# Altium footprint library FH12A40S05SH55.PcbLib: 1 footprints
Each footprint in its own frame and in the unit in brackets; x right, y up, seen from the top. Pads: shape width x height; smd on the part's side, far side on the other; paste and mask are expansions set on the pad; w line width, h text height; cw(c..) or ccw(c..) is an arc to the next point about the centre after c.
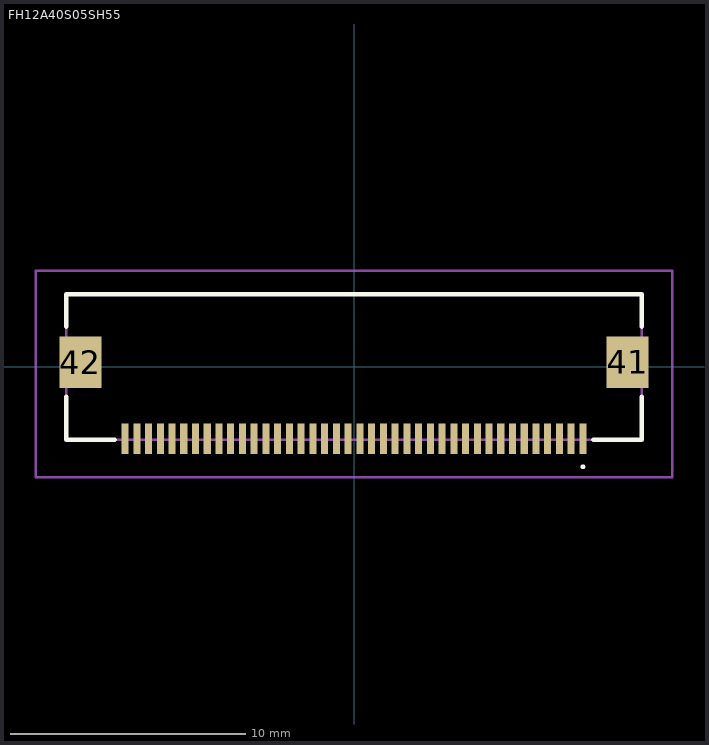
[diagram p0: the footprint, top view; thin cyan lines are the x and y axes]

## FH12A40S05SH55 [mm]
pads (42):
  rect 0.3x1.3 smd: 1(9.75,-3.05) 2(9.25,-3.05) 3(8.75,-3.05) 4(8.25,-3.05) 5(7.75,-3.05) 6(7.25,-3.05) 7(6.75,-3.05) 8(6.25,-3.05) 9(5.75,-3.05) 10(5.25,-3.05) 11(4.75,-3.05) 12(4.25,-3.05) 13(3.75,-3.05) 14(3.25,-3.05) 15(2.75,-3.05) 16(2.25,-3.05) 17(1.75,-3.05) 18(1.25,-3.05) 19(0.75,-3.05) 20(0.25,-3.05) 21(-0.25,-3.05) 22(-0.75,-3.05) 23(-1.25,-3.05) 24(-1.75,-3.05) 25(-2.25,-3.05) 26(-2.75,-3.05) 27(-3.25,-3.05) 28(-3.75,-3.05) 29(-4.25,-3.05) 30(-4.75,-3.05) 31(-5.25,-3.05) 32(-5.75,-3.05) 33(-6.25,-3.05) 34(-6.75,-3.05) 35(-7.25,-3.05) 36(-7.75,-3.05) 37(-8.25,-3.05) 38(-8.75,-3.05) 39(-9.25,-3.05) 40(-9.75,-3.05)
  rect 1.8x2.2 smd: 41(11.65,0.2) 42(-11.65,0.2)
Top Overlay:
  lines w0.1: 9.75,-4.3 cw(c9.75,-4.25) 9.75,-4.2 ; 9.75,-4.3 9.75,-4.3 ; 9.75,-4.3 ccw(c9.75,-4.25) 9.75,-4.2 ; 9.75,-4.2 9.75,-4.2
  lines w0.2: -12.25,-1.275 -12.25,-3.1 -10.2,-3.1 ; -12.25,1.725 -12.25,3.1 12.25,3.1 12.25,1.725 ; 10.2,-3.1 12.25,-3.1 12.25,-1.275
Mechanical 15:
  lines w0.1: -12.25,-3.1 12.25,-3.1 12.25,3.1 -12.25,3.1 -12.25,-3.1
Mechanical 20:
  lines w0.1: -13.55,-4.7 13.55,-4.7 13.55,4.1 -13.55,4.1 -13.55,-4.7